# Altium integrated library TI Data Converters Digital to Analog Converter.IntLib: 1533 symbols (part 3 of 99)
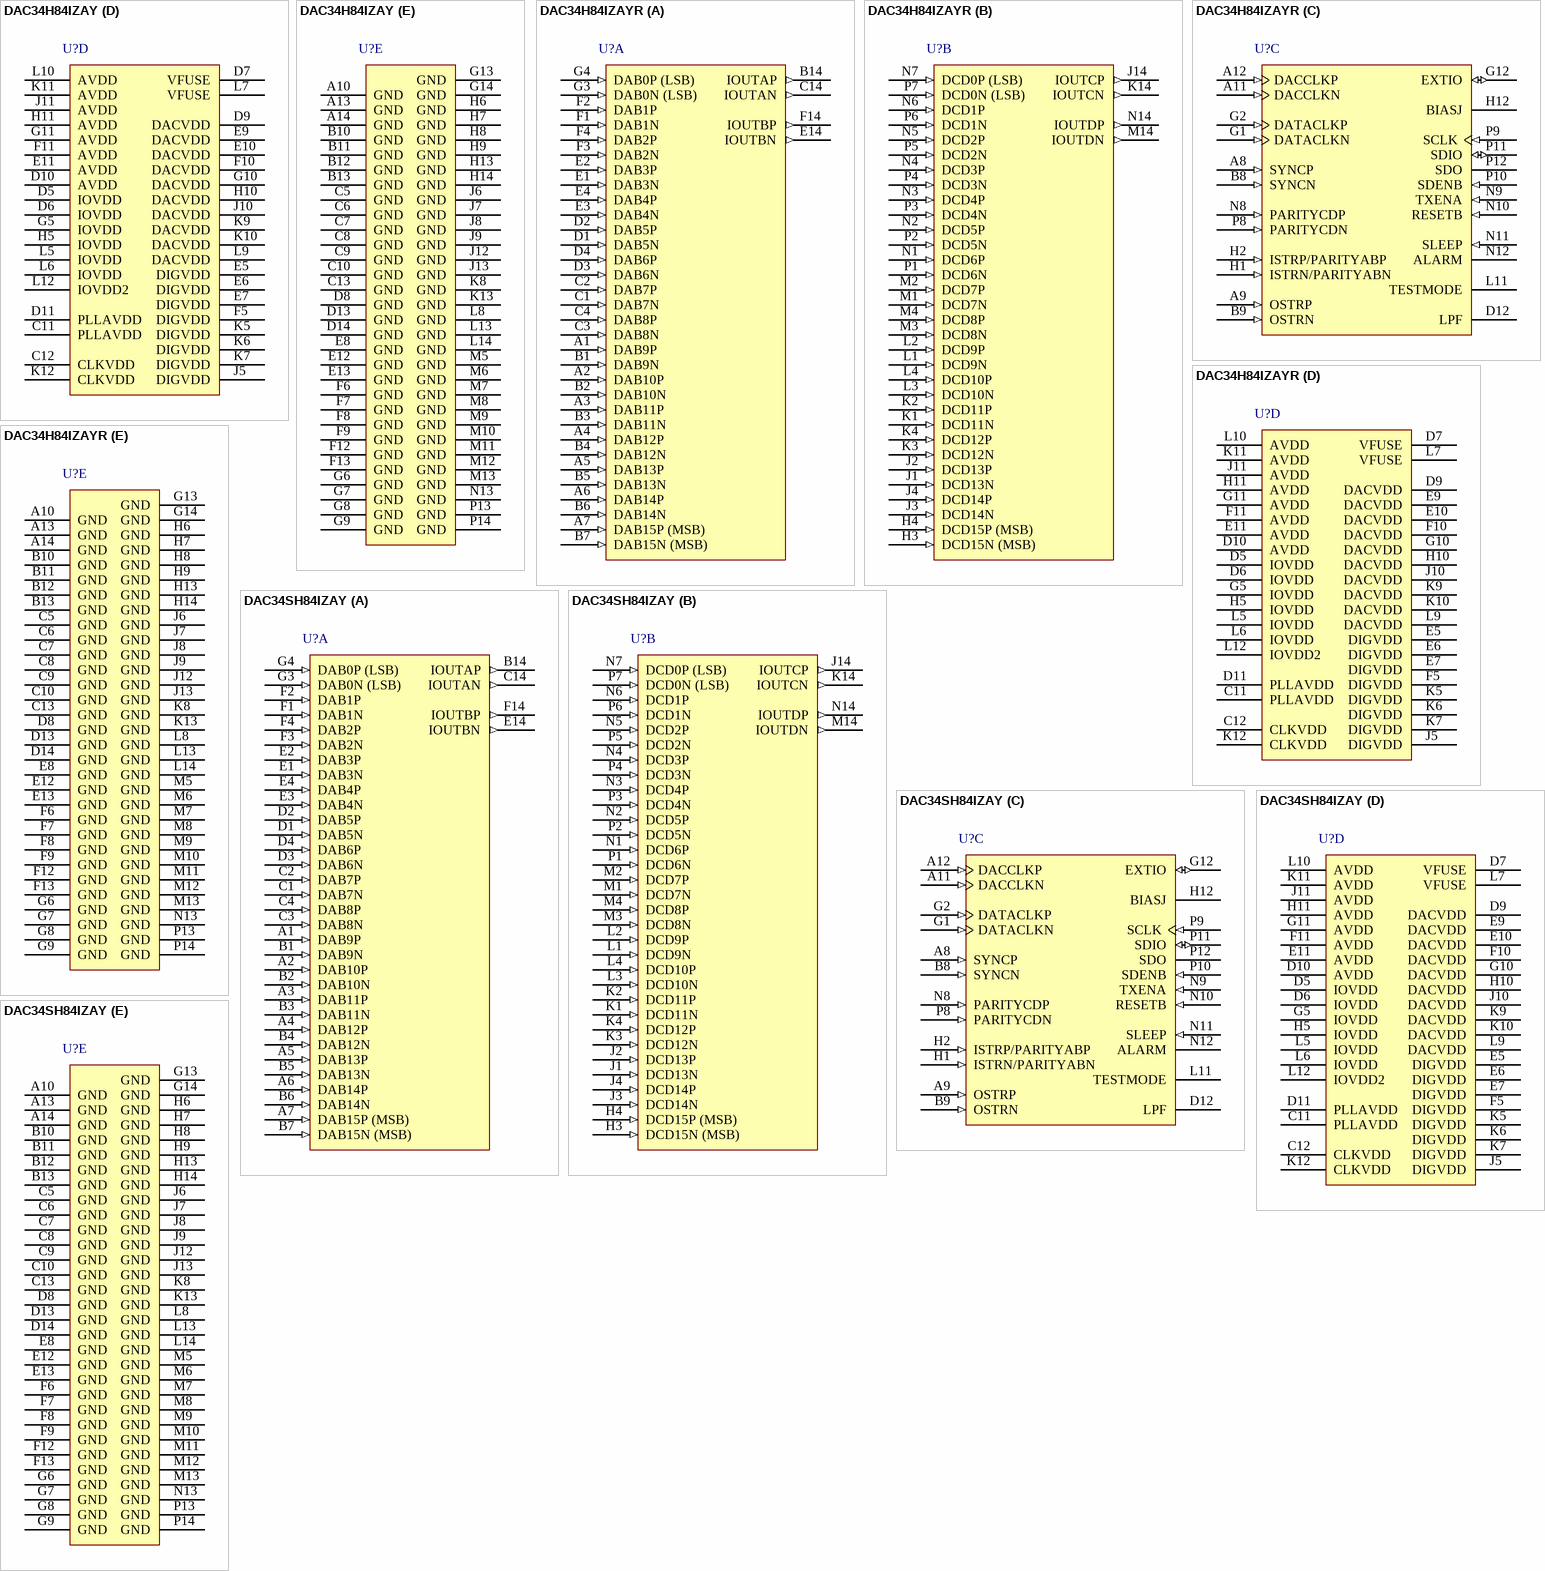
[diagram p75: symbols DAC34H84IZAY to DAC34SH84IZAY]

## DAC34SH84IZAY
designator U?
Quad-Channel, 16-Bit, 1.5 GSPS DAC, -40 to 85 degC, 196-pin BGA (ZAY196), Green (RoHS & no Sb/Br); Manufacturer: Texas Instruments; PartNumber: DAC34SH84IZAY; DAC Channels: 4; Interface: Parallel LVDS; Power Consumption(Typ)(mW): 1828; Resolution(Bits): 16; SFDR(dB): 78; SubFamily: High Speed DAC (>10MSPS); DatasheetVersion: SLAS808D; PackageVersion: 4208324-4/C, 09/2010; PackageReference: ZAY196; PackageDescription: 196-Pin Plastic Ball Grid Array, Body 12 x 12 mm, Pitch 0.8 mm; Supplier 1: Digi-Key; Supplier Part Number 1: DAC34SH84IZAY-ND; Supplier 2: Newark; Supplier Part Number 2: 47W5597; Supplier 3: Mouser; Supplier Part Number 3: 595-DAC34SH84IZAY; Eco-Plan: Green (RoHS & no Sb/Br); Mounting Technology: Surface Mount; ComponentLink1Description: Manufacturer URL; ComponentLink1URL: http://www.ti.com/; ComponentLink2Description: Datasheet; ComponentLink2URL: http://www.ti.com/general/docs/lit/getliterature.tsp?genericPartNumber=DAC34SH84&fileType=pdf; ComponentLink3Description: Package Specification; ComponentLink3URL: http://www.ti.com/litv/pdf/mpbga11
footprint TI-ZAY196 (BGA, 196-Balls, Body 12x12mm, Pitch 0.8mm)
part A pins: A1 DAB9P (in) "LVDS positive input data bits 0 through 15 for the AB-channel path. Internal 100 ohm termination resistor. Data format relative to DATACLKP/N clock is Double Data Rate (DDR).DAB15P is most significant data bit (MSB) DAB0P is (See Datasheet)", A2 DAB10P (in) "LVDS positive input data bits 0 through 15 for the AB-channel path. Internal 100 ohm termination resistor. Data format relative to DATACLKP/N clock is Double Data Rate (DDR).DAB15P is most significant data bit (MSB) DAB0P is (See Datasheet)", A3 DAB11P (in) "LVDS positive input data bits 0 through 15 for the AB-channel path. Internal 100 ohm termination resistor. Data format relative to DATACLKP/N clock is Double Data Rate (DDR).DAB15P is most significant data bit (MSB) DAB0P is (See Datasheet)", A4 DAB12P (in) "LVDS positive input data bits 0 through 15 for the AB-channel path. Internal 100 ohm termination resistor. Data format relative to DATACLKP/N clock is Double Data Rate (DDR).DAB15P is most significant data bit (MSB) DAB0P is (See Datasheet)", A5 DAB13P (in) "LVDS positive input data bits 0 through 15 for the AB-channel path. Internal 100 ohm termination resistor. Data format relative to DATACLKP/N clock is Double Data Rate (DDR).DAB15P is most significant data bit (MSB) DAB0P is (See Datasheet)", A6 DAB14P (in) "LVDS positive input data bits 0 through 15 for the AB-channel path. Internal 100 ohm termination resistor. Data format relative to DATACLKP/N clock is Double Data Rate (DDR).DAB15P is most significant data bit (MSB) DAB0P is (See Datasheet)", A7 DAB15P (MSB) (in) "LVDS positive input data bits 0 through 15 for the AB-channel path. Internal 100 ohm termination resistor. Data format relative to DATACLKP/N clock is Double Data Rate (DDR).DAB15P is most significant data bit (MSB) DAB0P is (See Datasheet)", B1 DAB9N (in) "LVDS negative input data bits 0 through 15 for the AB-channel path. (See DAB[15:0]P description above)", B2 DAB10N (in) "LVDS negative input data bits 0 through 15 for the AB-channel path. (See DAB[15:0]P description above)", B3 DAB11N (in) "LVDS negative input data bits 0 through 15 for the AB-channel path. (See DAB[15:0]P description above)", B4 DAB12N (in) "LVDS negative input data bits 0 through 15 for the AB-channel path. (See DAB[15:0]P description above)", B5 DAB13N (in) "LVDS negative input data bits 0 through 15 for the AB-channel path. (See DAB[15:0]P description above)", B6 DAB14N (in) "LVDS negative input data bits 0 through 15 for the AB-channel path. (See DAB[15:0]P description above)", B7 DAB15N (MSB) (in) "LVDS negative input data bits 0 through 15 for the AB-channel path. (See DAB[15:0]P description above)", B14 IOUTAP (out) "A-Channel DAC current output. Connect directly to ground if unused.", C1 DAB7N (in) "LVDS negative input data bits 0 through 15 for the AB-channel path. (See DAB[15:0]P description above)", C2 DAB7P (in) "LVDS positive input data bits 0 through 15 for the AB-channel path. Internal 100 ohm termination resistor. Data format relative to DATACLKP/N clock is Double Data Rate (DDR).DAB15P is most significant data bit (MSB) DAB0P is (See Datasheet)", C3 DAB8N (in) "LVDS negative input data bits 0 through 15 for the AB-channel path. (See DAB[15:0]P description above)", C4 DAB8P (in) "LVDS positive input data bits 0 through 15 for the AB-channel path. Internal 100 ohm termination resistor. Data format relative to DATACLKP/N clock is Double Data Rate (DDR).DAB15P is most significant data bit (MSB) DAB0P is (See Datasheet)", C14 IOUTAN (out) "A-Channel DAC complementary current output. Connect directly to ground if unused.", D1 DAB5N (in) "LVDS negative input data bits 0 through 15 for the AB-channel path. (See DAB[15:0]P description above)", D2 DAB5P (in) "LVDS positive input data bits 0 through 15 for the AB-channel path. Internal 100 ohm termination resistor. Data format relative to DATACLKP/N clock is Double Data Rate (DDR).DAB15P is most significant data bit (MSB) DAB0P is (See Datasheet)", D3 DAB6N (in) "LVDS negative input data bits 0 through 15 for the AB-channel path. (See DAB[15:0]P description above)", D4 DAB6P (in) "LVDS positive input data bits 0 through 15 for the AB-channel path. Internal 100 ohm termination resistor. Data format relative to DATACLKP/N clock is Double Data Rate (DDR).DAB15P is most significant data bit (MSB) DAB0P is (See Datasheet)", E1 DAB3N (in) "LVDS negative input data bits 0 through 15 for the AB-channel path. (See DAB[15:0]P description above)", E2 DAB3P (in) "LVDS positive input data bits 0 through 15 for the AB-channel path. Internal 100 ohm termination resistor. Data format relative to DATACLKP/N clock is Double Data Rate (DDR).DAB15P is most significant data bit (MSB) DAB0P is (See Datasheet)", E3 DAB4N (in) "LVDS negative input data bits 0 through 15 for the AB-channel path. (See DAB[15:0]P description above)", E4 DAB4P (in) "LVDS positive input data bits 0 through 15 for the AB-channel path. Internal 100 ohm termination resistor. Data format relative to DATACLKP/N clock is Double Data Rate (DDR).DAB15P is most significant data bit (MSB) DAB0P is (See Datasheet)", E14 IOUTBN (out) "B-Channel DAC complementary current output. Connect directly to ground if unused.", F1 DAB1N (in) "LVDS negative input data bits 0 through 15 for the AB-channel path. (See DAB[15:0]P description above)", F2 DAB1P (in) "LVDS positive input data bits 0 through 15 for the AB-channel path. Internal 100 ohm termination resistor. Data format relative to DATACLKP/N clock is Double Data Rate (DDR).DAB15P is most significant data bit (MSB) DAB0P is (See Datasheet)", F3 DAB2N (in) "LVDS negative input data bits 0 through 15 for the AB-channel path. (See DAB[15:0]P description above)", F4 DAB2P (in) "LVDS positive input data bits 0 through 15 for the AB-channel path. Internal 100 ohm termination resistor. Data format relative to DATACLKP/N clock is Double Data Rate (DDR).DAB15P is most significant data bit (MSB) DAB0P is (See Datasheet)", F14 IOUTBP (out) "B-Channel DAC current output. Connect directly to ground if unused.", G3 DAB0N (LSB) (in) "LVDS negative input data bits 0 through 15 for the AB-channel path. (See DAB[15:0]P description above)", G4 DAB0P (LSB) (in) "LVDS positive input data bits 0 through 15 for the AB-channel path. Internal 100 ohm termination resistor. Data format relative to DATACLKP/N clock is Double Data Rate (DDR).DAB15P is most significant data bit (MSB) DAB0P is (See Datasheet)"
part B pins: H3 DCD15N (MSB) (in) "LVDS negative input data bits 0 through 15 for the CD-channel path. (See DCD[15:0]P description above)", H4 DCD15P (MSB) (in) "LVDS positive input data bits 0 through 15 for the CD-channel path. Internal 100 ohm termination resistor. Data format relative to DATACLKP/N clock is Double Data Rate (DDR).DCD15P is most significant data bit (MSB) DCD0P is (See Datasheet)", J1 DCD13N (in) "LVDS negative input data bits 0 through 15 for the CD-channel path. (See DCD[15:0]P description above)", J2 DCD13P (in) "LVDS positive input data bits 0 through 15 for the CD-channel path. Internal 100 ohm termination resistor. Data format relative to DATACLKP/N clock is Double Data Rate (DDR).DCD15P is most significant data bit (MSB) DCD0P is (See Datasheet)", J3 DCD14N (in) "LVDS negative input data bits 0 through 15 for the CD-channel path. (See DCD[15:0]P description above)", J4 DCD14P (in) "LVDS positive input data bits 0 through 15 for the CD-channel path. Internal 100 ohm termination resistor. Data format relative to DATACLKP/N clock is Double Data Rate (DDR).DCD15P is most significant data bit (MSB) DCD0P is (See Datasheet)", J14 IOUTCP (out) "C-Channel DAC current output. Connect directly to ground if unused.", K1 DCD11N (in) "LVDS negative input data bits 0 through 15 for the CD-channel path. (See DCD[15:0]P description above)", K2 DCD11P (in) "LVDS positive input data bits 0 through 15 for the CD-channel path. Internal 100 ohm termination resistor. Data format relative to DATACLKP/N clock is Double Data Rate (DDR).DCD15P is most significant data bit (MSB) DCD0P is (See Datasheet)", K3 DCD12N (in) "LVDS negative input data bits 0 through 15 for the CD-channel path. (See DCD[15:0]P description above)", K4 DCD12P (in) "LVDS positive input data bits 0 through 15 for the CD-channel path. Internal 100 ohm termination resistor. Data format relative to DATACLKP/N clock is Double Data Rate (DDR).DCD15P is most significant data bit (MSB) DCD0P is (See Datasheet)", K14 IOUTCN (out) "C-Channel DAC complementary current output. Connect directly to ground if unused.", L1 DCD9N (in) "LVDS negative input data bits 0 through 15 for the CD-channel path. (See DCD[15:0]P description above)", L2 DCD9P (in) "LVDS positive input data bits 0 through 15 for the CD-channel path. Internal 100 ohm termination resistor. Data format relative to DATACLKP/N clock is Double Data Rate (DDR).DCD15P is most significant data bit (MSB) DCD0P is (See Datasheet)", L3 DCD10N (in) "LVDS negative input data bits 0 through 15 for the CD-channel path. (See DCD[15:0]P description above)", L4 DCD10P (in) "LVDS positive input data bits 0 through 15 for the CD-channel path. Internal 100 ohm termination resistor. Data format relative to DATACLKP/N clock is Double Data Rate (DDR).DCD15P is most significant data bit (MSB) DCD0P is (See Datasheet)", M1 DCD7N (in) "LVDS negative input data bits 0 through 15 for the CD-channel path. (See DCD[15:0]P description above)", M2 DCD7P (in) "LVDS positive input data bits 0 through 15 for the CD-channel path. Internal 100 ohm termination resistor. Data format relative to DATACLKP/N clock is Double Data Rate (DDR).DCD15P is most significant data bit (MSB) DCD0P is (See Datasheet)", M3 DCD8N (in) "LVDS negative input data bits 0 through 15 for the CD-channel path. (See DCD[15:0]P description above)", M4 DCD8P (in) "LVDS positive input data bits 0 through 15 for the CD-channel path. Internal 100 ohm termination resistor. Data format relative to DATACLKP/N clock is Double Data Rate (DDR).DCD15P is most significant data bit (MSB) DCD0P is (See Datasheet)", M14 IOUTDN (out) "D-Channel DAC complementary current output. Connect directly to ground if unused.", N1 DCD6P (in) "LVDS positive input data bits 0 through 15 for the CD-channel path. Internal 100 ohm termination resistor. Data format relative to DATACLKP/N clock is Double Data Rate (DDR).DCD15P is most significant data bit (MSB) DCD0P is (See Datasheet)", N2 DCD5P (in) "LVDS positive input data bits 0 through 15 for the CD-channel path. Internal 100 ohm termination resistor. Data format relative to DATACLKP/N clock is Double Data Rate (DDR).DCD15P is most significant data bit (MSB) DCD0P is (See Datasheet)", N3 DCD4P (in) "LVDS positive input data bits 0 through 15 for the CD-channel path. Internal 100 ohm termination resistor. Data format relative to DATACLKP/N clock is Double Data Rate (DDR).DCD15P is most significant data bit (MSB) DCD0P is (See Datasheet)", N4 DCD3P (in) "LVDS positive input data bits 0 through 15 for the CD-channel path. Internal 100 ohm termination resistor. Data format relative to DATACLKP/N clock is Double Data Rate (DDR).DCD15P is most significant data bit (MSB) DCD0P is (See Datasheet)", N5 DCD2P (in) "LVDS positive input data bits 0 through 15 for the CD-channel path. Internal 100 ohm termination resistor. Data format relative to DATACLKP/N clock is Double Data Rate (DDR).DCD15P is most significant data bit (MSB) DCD0P is (See Datasheet)", N6 DCD1P (in) "LVDS positive input data bits 0 through 15 for the CD-channel path. Internal 100 ohm termination resistor. Data format relative to DATACLKP/N clock is Double Data Rate (DDR).DCD15P is most significant data bit (MSB) DCD0P is (See Datasheet)", N7 DCD0P (LSB) (in) "LVDS positive input data bits 0 through 15 for the CD-channel path. Internal 100 ohm termination resistor. Data format relative to DATACLKP/N clock is Double Data Rate (DDR).DCD15P is most significant data bit (MSB) DCD0P is (See Datasheet)", N14 IOUTDP (out) "D-Channel DAC current output. Connect directly to ground if unused.", P1 DCD6N (in) "LVDS negative input data bits 0 through 15 for the CD-channel path. (See DCD[15:0]P description above)", P2 DCD5N (in) "LVDS negative input data bits 0 through 15 for the CD-channel path. (See DCD[15:0]P description above)", P3 DCD4N (in) "LVDS negative input data bits 0 through 15 for the CD-channel path. (See DCD[15:0]P description above)", P4 DCD3N (in) "LVDS negative input data bits 0 through 15 for the CD-channel path. (See DCD[15:0]P description above)", P5 DCD2N (in) "LVDS negative input data bits 0 through 15 for the CD-channel path. (See DCD[15:0]P description above)", P6 DCD1N (in) "LVDS negative input data bits 0 through 15 for the CD-channel path. (See DCD[15:0]P description above)", P7 DCD0N (LSB) (in) "LVDS negative input data bits 0 through 15 for the CD-channel path. (See DCD[15:0]P description above)"
part C pins: A8 SYNCP (in) "LVDS SYNC positive input. Internal 100 ohm termination resistor. If unused it can be left unconnected. The PARITY, SYNC, and ISTR inputs are rotated to allow complete reversal of the data interface when setting the (See Datasheet)", A9 OSTRP (in) "Optional LVPECL output strobe positive input. This positive/negative pair is captured with the rising edge of DACCLKP/N. It is used to sync the divided-down clocks and FIFO output pointer in Dual Sync Sources Mode. If unused (See Datasheet)", A11 DACCLKN (in) "Complementary external LVPECL clock input for DAC core. (see the DACCLKP description)", A12 DACCLKP (in) "Positive external LVPECL clock input for DAC core with a self-bias.", B8 SYNCN (in) "LVDS SYNC negative input.", B9 OSTRN (in) "Optional LVPECL output strobe negative input. (See the OSTRP description)", D12 LPF "PLL loop filter connection. If not using the clock multiplying PLL, the LPF pin can be left unconnected.", G1 DATACLKN (in) "LVDS negative input data clock. (See DATACLKP description)", G2 DATACLKP (in) "LVDS positive input data clock. Internal 100 ohm termination resistor. Input data DAB[15:0]P/N and DCD[15:0]P/N are latched on both edges of DATACLKP/N (Double Data Rate).", G12 EXTIO (io) "Used as external reference input when internal reference is disabled through config27 extref_ena = ‘1’. Used as internal reference output when config27 extref_ena = ‘0’ (default). Requires a 0.1 uF dec(See Datasheet)", H1 ISTRN/PARITYABN (in) "LVDS input strope negative input. (See the ISTRP/PARITYABP description)", H2 ISTRP/PARITYABP (in) "LVDS input strobe positive input. Internal 100 ohm termination resistor. The main functions of this input are to sync the FIFO pointer, to provide a sync source to the digital blocks, and/or to act as a parity input for the (See Datasheet)", H12 BIASJ "Full-scale output current bias. For 30mA full-scale output current, connect 1.28kohm to ground. Change the full-scale output current through coarse_dac(3:0) in config3, bit<15:12>", L11 TESTMODE "This pin is used for factory testing. Internal pull-down. Leave unconnected for normal operation.", N8 PARITYCDP (in) "Optional LVDS positive input parity bit for the CD-data bus. The PARITYCDP/N LVDS pair has an internal 100 ohm termination resistor. If unused it can be left unconnected. The PARITY, SYNC, and ISTR inputs are rotated to (See Datasheet)", N9 TXENA (in) "Transmit enable active high input. Internal pull-down. To enable analog output data transmission, set sif_txenable in register config3 to “1” or pull CMOS TXENA pin to high. To disable analog output, set sif_txenable(See Datasheet)", N10 RESETB (in) "Active low input for chip RESET. Internal pull-up.", N11 SLEEP (in) "Active high asynchronous hardware power-down input. Internal pull-down.", N12 ALARM (hiz) "CMOS output for ALARM condition. The ALARM output functionality is defined through the config7 register. Default polarity is active high, but can be changed to active low via config0 alarm_out_pol control bit.", P8 PARITYCDN (in) "Optional LVDS negative input parity bit for the CD-data bus.", P9 SCLK (in) "Serial interface clock. Internal pull-down.", P10 SDENB (in) "Active low serial data enable, always an input to the DAC34H84. Internal pull-up.", P11 SDIO (io) "Serial interface data. Bi-directional in 3-pin mode (default) and uni-directional 4-pin mode. Internal pull-down.", P12 SDO (hiz) "Uni-directional serial interface data in 4-pin mode. The SDO pin is tri-stated in 3-pin interface mode (default)."
part D pins: C11 PLLAVDD (power) "PLL analog supply voltage. (3.3 V)", C12 CLKVDD (power) "Internal clock buffer supply voltage. (1.2 V). It is recommended to isolate this supply from DIGVDD and DACVDD.", D5 IOVDD (power) "Supply voltage for all LVDS I/O. (3.3 V)", D6 IOVDD (power) "Supply voltage for all LVDS I/O. (3.3 V)", D7 VFUSE (power) "Digital supply voltage. This supply pin is also used for factory fuse programming. Connect to DACVDD or DIGVDD for normal operation.", D9 DACVDD (power) "DAC core supply voltage. (1.2 V). It is recommended to isolate this supply from CLKVDD and DIGVDD.", D10 AVDD (power) "Analog supply voltage. (3.3 V)", D11 PLLAVDD (power) "PLL analog supply voltage. (3.3 V)", E5 DIGVDD (power) "Digital supply voltage. (1.2 V). It is recommended to isolate this supply from CLKVDD and DACVDD.", E6 DIGVDD (power) "Digital supply voltage. (1.2 V). It is recommended to isolate this supply from CLKVDD and DACVDD.", E7 DIGVDD (power) "Digital supply voltage. (1.2 V). It is recommended to isolate this supply from CLKVDD and DACVDD.", E9 DACVDD (power) "DAC core supply voltage. (1.2 V). It is recommended to isolate this supply from CLKVDD and DIGVDD.", E10 DACVDD (power) "DAC core supply voltage. (1.2 V). It is recommended to isolate this supply from CLKVDD and DIGVDD.", E11 AVDD (power) "Analog supply voltage. (3.3 V)", F5 DIGVDD (power) "Digital supply voltage. (1.2 V). It is recommended to isolate this supply from CLKVDD and DACVDD.", F10 DACVDD (power) "DAC core supply voltage. (1.2 V). It is recommended to isolate this supply from CLKVDD and DIGVDD.", F11 AVDD (power) "Analog supply voltage. (3.3 V)", G5 IOVDD (power) "Supply voltage for all LVDS I/O. (3.3 V)", G10 DACVDD (power) "DAC core supply voltage. (1.2 V). It is recommended to isolate this supply from CLKVDD and DIGVDD.", G11 AVDD (power) "Analog supply voltage. (3.3 V)", H5 IOVDD (power) "Supply voltage for all LVDS I/O. (3.3 V)", H10 DACVDD (power) "DAC core supply voltage. (1.2 V). It is recommended to isolate this supply from CLKVDD and DIGVDD.", H11 AVDD (power) "Analog supply voltage. (3.3 V)", J5 DIGVDD (power) "Digital supply voltage. (1.2 V). It is recommended to isolate this supply from CLKVDD and DACVDD.", J10 DACVDD (power) "DAC core supply voltage. (1.2 V). It is recommended to isolate this supply from CLKVDD and DIGVDD.", J11 AVDD (power) "Analog supply voltage. (3.3 V)", K5 DIGVDD (power) "Digital supply voltage. (1.2 V). It is recommended to isolate this supply from CLKVDD and DACVDD.", K6 DIGVDD (power) "Digital supply voltage. (1.2 V). It is recommended to isolate this supply from CLKVDD and DACVDD.", K7 DIGVDD (power) "Digital supply voltage. (1.2 V). It is recommended to isolate this supply from CLKVDD and DACVDD.", K9 DACVDD (power) "DAC core supply voltage. (1.2 V). It is recommended to isolate this supply from CLKVDD and DIGVDD.", K10 DACVDD (power) "DAC core supply voltage. (1.2 V). It is recommended to isolate this supply from CLKVDD and DIGVDD.", K11 AVDD (power) "Analog supply voltage. (3.3 V)", K12 CLKVDD (power) "Internal clock buffer supply voltage. (1.2 V). It is recommended to isolate this supply from DIGVDD and DACVDD.", L5 IOVDD (power) "Supply voltage for all LVDS I/O. (3.3 V)", L6 IOVDD (power) "Supply voltage for all LVDS I/O. (3.3 V)", L7 VFUSE (power) "Digital supply voltage. This supply pin is also used for factory fuse programming. Connect to DACVDD or DIGVDD for normal operation.", L9 DACVDD (power) "DAC core supply voltage. (1.2 V). It is recommended to isolate this supply from CLKVDD and DIGVDD.", L10 AVDD (power) "Analog supply voltage. (3.3 V)", L12 IOVDD2 (power) "Supply voltage for all CMOS I/O. (1.8 to 3.3V) This supply can range from 1.8V to 3.3V to change the input and output level of the CMOS I/O."
part E pins: A10 GND (power) "These pins are ground for all supplies.", A13 GND (power) "These pins are ground for all supplies.", A14 GND (power) "These pins are ground for all supplies.", B10 GND (power) "These pins are ground for all supplies.", B11 GND (power) "These pins are ground for all supplies.", B12 GND (power) "These pins are ground for all supplies.", B13 GND (power) "These pins are ground for all supplies.", C5 GND (power) "These pins are ground for all supplies.", C6 GND (power) "These pins are ground for all supplies.", C7 GND (power) "These pins are ground for all supplies.", C8 GND (power) "These pins are ground for all supplies.", C9 GND (power) "These pins are ground for all supplies.", C10 GND (power) "These pins are ground for all supplies.", C13 GND (power) "These pins are ground for all supplies.", D8 GND (power) "These pins are ground for all supplies.", D13 GND (power) "These pins are ground for all supplies.", D14 GND (power) "These pins are ground for all supplies.", E8 GND (power) "These pins are ground for all supplies.", E12 GND (power) "These pins are ground for all supplies.", E13 GND (power) "These pins are ground for all supplies.", F6 GND (power) "These pins are ground for all supplies.", F7 GND (power) "These pins are ground for all supplies.", F8 GND (power) "These pins are ground for all supplies.", F9 GND (power) "These pins are ground for all supplies.", F12 GND (power) "These pins are ground for all supplies.", F13 GND (power) "These pins are ground for all supplies.", G6 GND (power) "These pins are ground for all supplies.", G7 GND (power) "These pins are ground for all supplies.", G8 GND (power) "These pins are ground for all supplies.", G9 GND (power) "These pins are ground for all supplies.", G13 GND (power) "These pins are ground for all supplies.", G14 GND (power) "These pins are ground for all supplies.", H6 GND (power) "These pins are ground for all supplies.", H7 GND (power) "These pins are ground for all supplies.", H8 GND (power) "These pins are ground for all supplies.", H9 GND (power) "These pins are ground for all supplies.", H13 GND (power) "These pins are ground for all supplies.", H14 GND (power) "These pins are ground for all supplies.", J6 GND (power) "These pins are ground for all supplies.", J7 GND (power) "These pins are ground for all supplies.", J8 GND (power) "These pins are ground for all supplies.", J9 GND (power) "These pins are ground for all supplies.", J12 GND (power) "These pins are ground for all supplies.", J13 GND (power) "These pins are ground for all supplies.", K8 GND (power) "These pins are ground for all supplies.", K13 GND (power) "These pins are ground for all supplies.", L8 GND (power) "These pins are ground for all supplies.", L13 GND (power) "These pins are ground for all supplies.", L14 GND (power) "These pins are ground for all supplies.", M5 GND (power) "These pins are ground for all supplies.", M6 GND (power) "These pins are ground for all supplies.", M7 GND (power) "These pins are ground for all supplies.", M8 GND (power) "These pins are ground for all supplies.", M9 GND (power) "These pins are ground for all supplies.", M10 GND (power) "These pins are ground for all supplies.", M11 GND (power) "These pins are ground for all supplies.", M12 GND (power) "These pins are ground for all supplies.", M13 GND (power) "These pins are ground for all supplies.", N13 GND (power) "These pins are ground for all supplies.", P13 GND (power) "These pins are ground for all supplies.", P14 GND (power) "These pins are ground for all supplies."

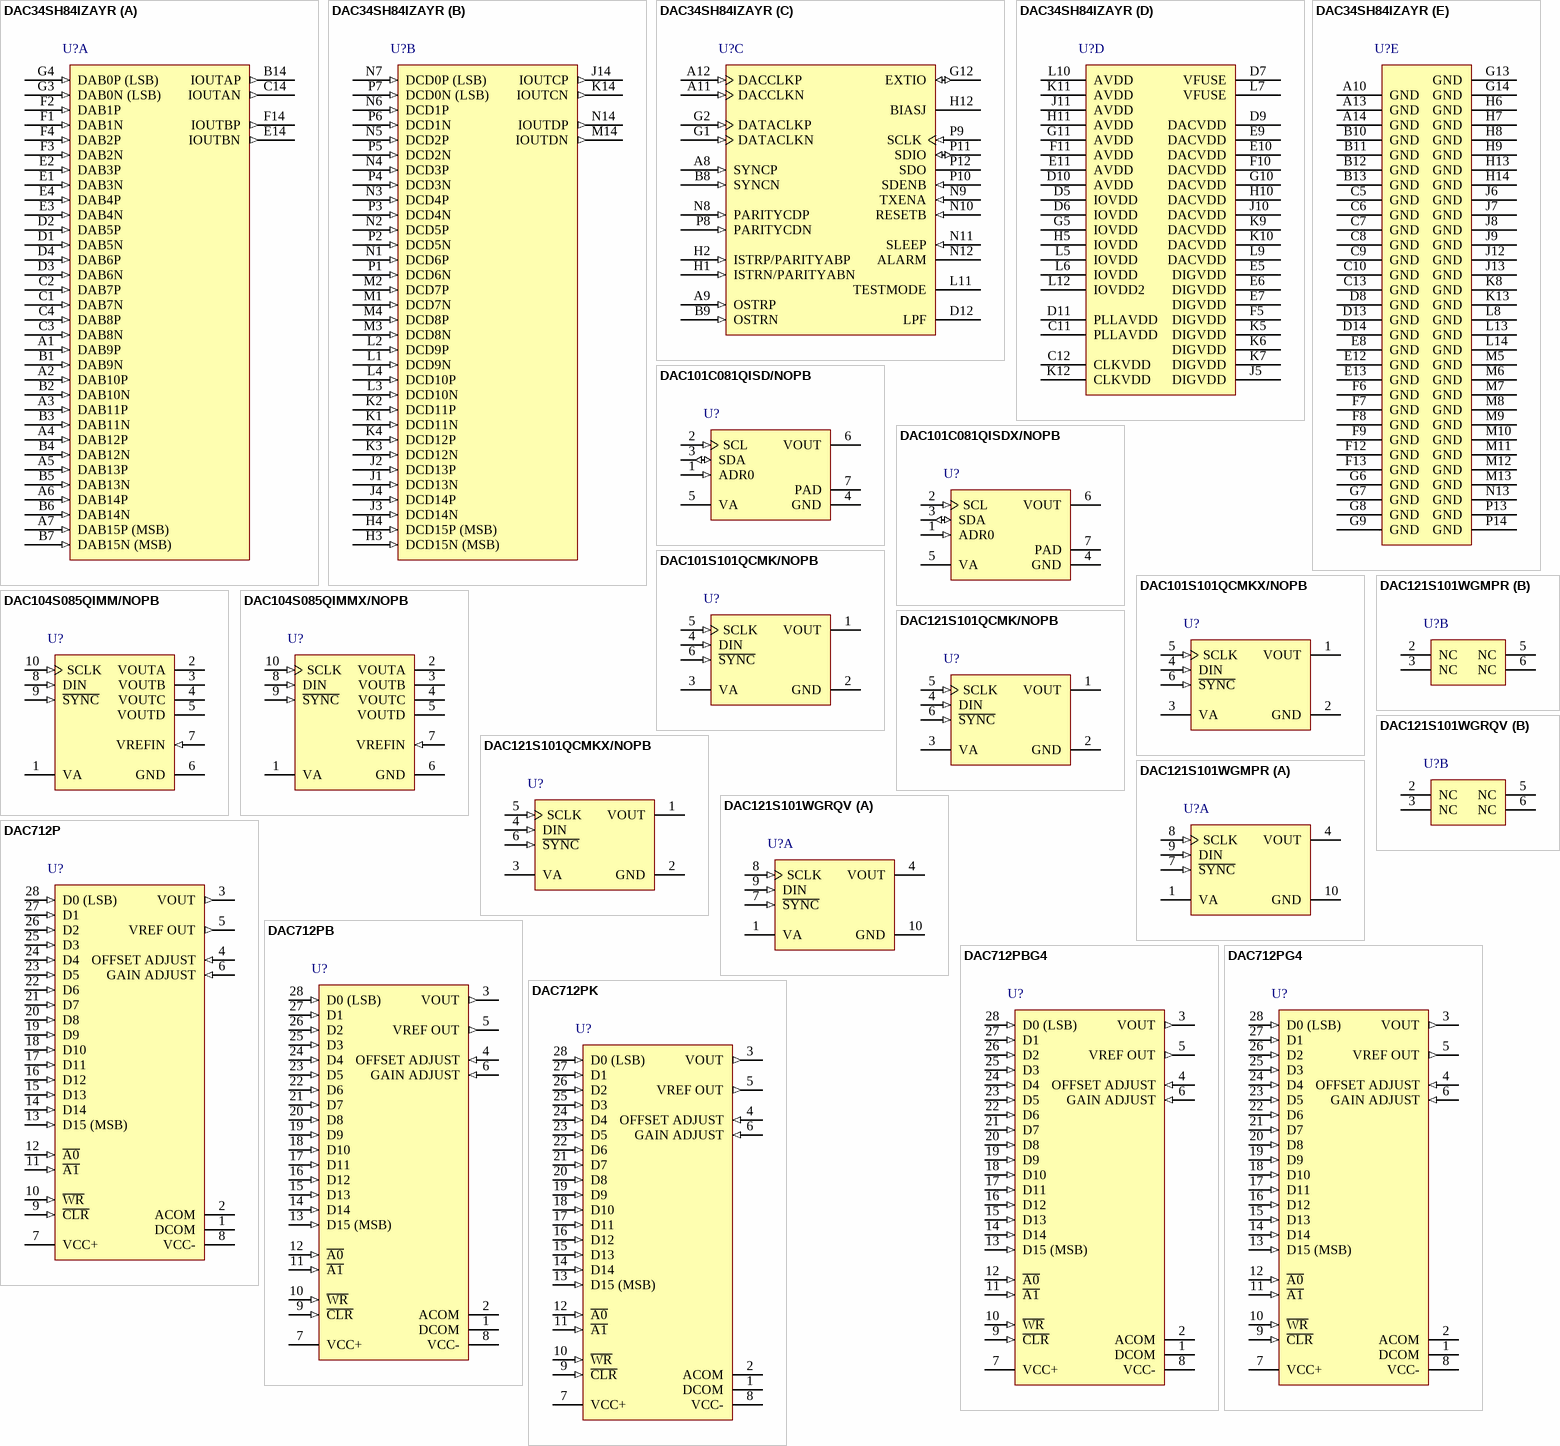
[diagram p2: symbols DAC34SH84IZAYR to DAC712PK]